# Altium integrated library Linear Technology Power Management Switching Regulator LTC1174-LTC3901.IntLib: 2647 symbols (part 274 of 364)
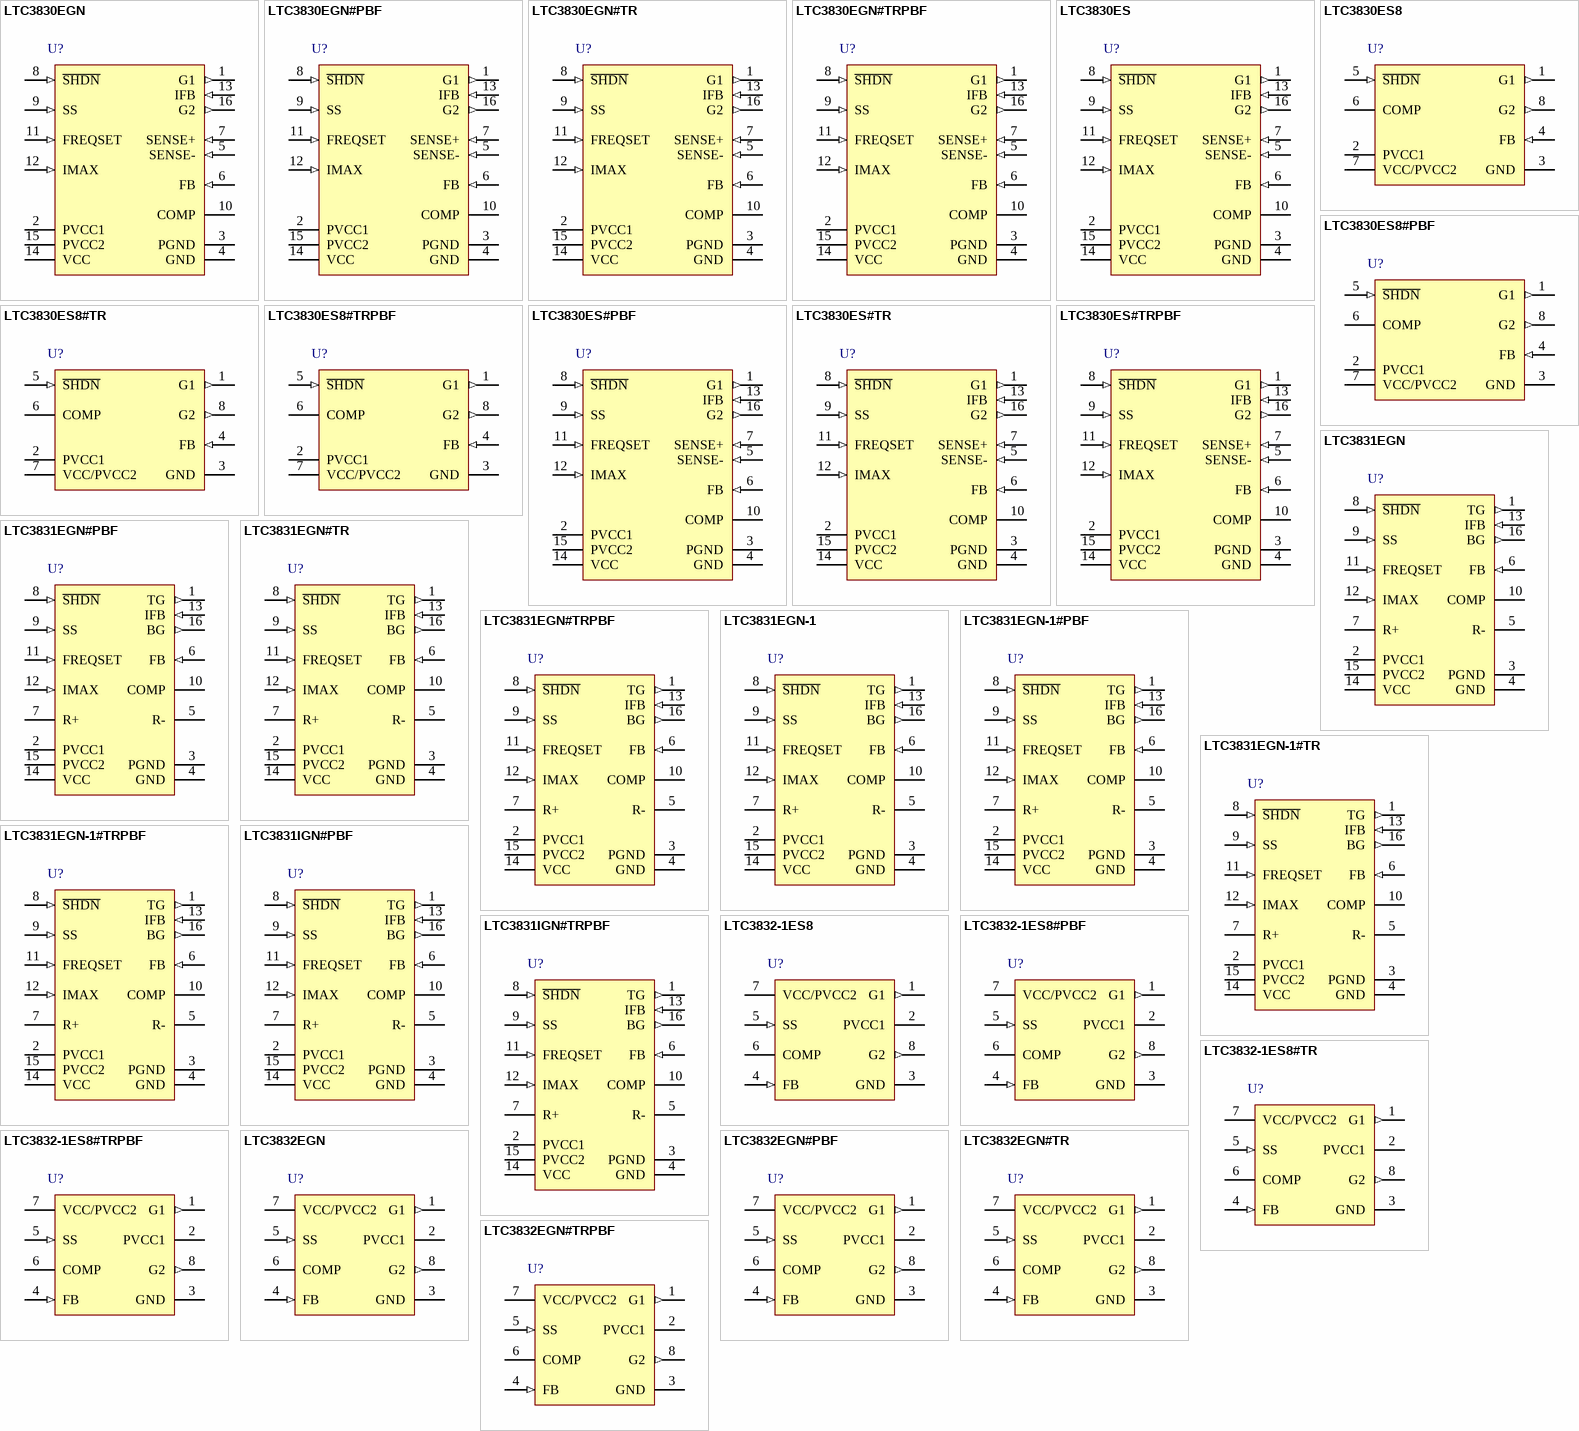
[diagram p357: symbols LTC3830EGN to LTC3832EGN#TRPBF]

## LTC3830ES8#TRPBF
designator U?
High Power Step-Down Synchronous DC/DC Controller for Low Voltage Operation, 8-pin SOIC (S8-8), -40 to 85 degC, Pb-Free, Tape and Reel; Manufacturer: Linear Technology; PartNumber: LTC3830ES8#TRPBF; Frequency Sync Range: 100kHz - 500kHz; Number of Outputs: 1; PackageVersion: Rev. G, 03/2012; PackageReference: S8-8; PackageDescription: 8-Pin Plastic Small Outline (Narrow .150 Inch), Body 4.9 x 3.9 mm, Pitch 1.27 mm; Supplier 1: Digi-Key; Supplier Part Number 1: LTC3830ES8#TRPBF-ND; Packing: Tape and Reel; RoHS: TRUE; Mounting Technology: Surface Mount; ComponentLink1Description: Manufacturer URL; ComponentLink1URL: http://www.linear.com/; ComponentLink2Description: Datasheet; ComponentLink2URL: http://cds.linear.com/docs/en/datasheet/3830fa.pdf; ComponentLink3Description: Package Specification; ComponentLink3URL: http://cds.linear.com/docs/en/packaging/05081610_G_SO8.pdf
footprint LT-S8-8_N (SOIC, 8-Leads, Body 5x4mm, Pitch 1.27mm, IPC Medium Density)
footprint LT-S8-8_L (SOIC, 8-Leads, Body 5x4mm, Pitch 1.27mm, IPC High Density)
footprint LT-S8-8_M (SOIC, 8-Leads, Body 5x4mm, Pitch 1.27mm, IPC Low Density)
pins: 1 G1 (out) "Top Gate Driver Output. Connect this pin to the gate of the upper N-channel MOSFET, Q1. This output swings from PGND to PVCC1. It remains low if G2 is high or during shutdown mode.", 2 PVCC1 (power) "Power Supply Input for G1. Connect this pin to a potential of at least VIN + VGS(ON)(Q1). This potential can be generated using an external supply or charge pump.", 3 GND (power) "Signal Ground. All low power internal circuitry returns to this pin. To minimize regulation errors due to ground currents, connect GND to PGND right at the LTC3830.", 4 FB (in) "These three pins connect to the internal resistor divider and input of the error amplifier. To use the internal divider to set the output voltage to 3.3V, connect SENSE+ to the positive terminal of the output capacitor and (See Datasheet)", 5 ~{SHDN} (in) "Shutdown. A TTL compatible low level at S\H\D\N\ for longer than 100us puts the LTC3830 into shutdown mode. In shutdown, G1 and G2 go low, all internal circuits are disabled and the quiescent current drops to 10uA max. A TTL (See Datasheet)", 6 COMP "External Compensation. This pin internally connects to the output of the error amplifier and input of the PWM comparator. Use a RC + C network at this pin to compensate the feedback loop to provide optimum transient response.", 7 VCC/PVCC2 (power), 8 G2 (out) "Bottom Gate Driver Output. Connect this pin to the gate of the lower N-channel MOSFET, Q2. This output swings from PGND to PVCC2. It remains low when G1 is high or during shutdown mode. To prevent output undershoot during a (See Datasheet)"

## LTC3830ES#PBF
designator U?
High Power Step-Down Synchronous DC/DC Controller for Low Voltage Operation, 16-pin SOP (S-16), -40 to 85 degC, Pb-Free; Manufacturer: Linear Technology; PartNumber: LTC3830ES#PBF; Frequency Sync Range: 100kHz - 500kHz; Number of Outputs: 1; PackageVersion: Rev. G, 05/2012; PackageReference: S-16; PackageDescription: 16-Pin Plastic Small Outline, Body 9.9 x 3.9 mm, Pitch 1.27 mm; Supplier 1: Digi-Key; Supplier Part Number 1: LTC3830ES#PBF-ND; RoHS: TRUE; Mounting Technology: Surface Mount; ComponentLink1Description: Manufacturer URL; ComponentLink1URL: http://www.linear.com/; ComponentLink2Description: Datasheet; ComponentLink2URL: http://cds.linear.com/docs/en/datasheet/3830fa.pdf; ComponentLink3Description: Package Specification; ComponentLink3URL: http://cds.linear.com/docs/en/packaging/S16%2005-08-1610%20Rev%20G.pdf
footprint LT-S-16_N (SOP, 16-Leads, Body 10x4mm, Pitch 1.27mm, IPC Medium Density)
footprint LT-S-16_L (SOP, 16-Leads, Body 10x4mm, Pitch 1.27mm, IPC High Density)
footprint LT-S-16_M (SOP, 16-Leads, Body 10x4mm, Pitch 1.27mm, IPC Low Density)
pins: 1 G1 (out) "Top Gate Driver Output. Connect this pin to the gate of the upper N-channel MOSFET, Q1. This output swings from PGND to PVCC1. It remains low if G2 is high or during shutdown mode.", 2 PVCC1 (power) "Power Supply Input for G1. Connect this pin to a potential of at least VIN + VGS(ON)(Q1). This potential can be generated using an external supply or charge pump.", 3 PGND (power) "Power Ground. Both drivers return to this pin. Connect this pin to a low impedance ground in close proximity to the source of Q2. Refer to the Layout Consideration section for more details on PCB layout techniques. The (See Datasheet)", 4 GND (power) "Signal Ground. All low power internal circuitry returns to this pin. To minimize regulation errors due to ground currents, connect GND to PGND right at the LTC3830.", 5 SENSE- (in) "These three pins connect to the internal resistor divider and input of the error amplifier. To use the internal divider to set the output voltage to 3.3V, connect SENSE+ to the positive terminal of the output capacitor and (See Datasheet)", 6 FB (in) "These three pins connect to the internal resistor divider and input of the error amplifier. To use the internal divider to set the output voltage to 3.3V, connect SENSE+ to the positive terminal of the output capacitor and (See Datasheet)", 7 SENSE+ (in) "These three pins connect to the internal resistor divider and input of the error amplifier. To use the internal divider to set the output voltage to 3.3V, connect SENSE+ to the positive terminal of the output capacitor and (See Datasheet)", 8 ~{SHDN} (in) "Shutdown. A TTL compatible low level at S\H\D\N\ for longer than 100us puts the LTC3830 into shutdown mode. In shutdown, G1 and G2 go low, all internal circuits are disabled and the quiescent current drops to 10uA max. A TTL (See Datasheet)", 9 SS (in) "Soft-Start. Connect this pin to an external capacitor, CSS, to implement a soft-start function. If the LTC3830 goes into current limit, CSS is discharged to reduce the duty cycle. CSS must be selected such that during (See Datasheet)", 10 COMP "External Compensation. This pin internally connects to the output of the error amplifier and input of the PWM comparator. Use a RC + C network at this pin to compensate the feedback loop to provide optimum transient response.", 11 FREQSET (in) "Frequency Set. Use this pin to adjust the free-running frequency of the internal oscillator. With the pin floating, the oscillator runs at about 200kHz. A resistor from FREQSET to ground speeds up the oscillator; a resistor (See Datasheet)", 12 IMAX (in) "Current Limit Threshold Set. IMAX sets the threshold for the internal current limit comparator. If IFB drops below IMAX with G1 on, the LTC3830 goes into current limit. IMAX has an internal 12uA pull-down to GND. Connect (See Datasheet)", 13 IFB (in) "Current Limit Sense. Connect this pin to the switching node at the source of Q1 and the drain of Q2 through a 1k resistor. The 1k resistor is required to prevent voltage transients from damaging IFB.This pin is used for (See Datasheet)", 14 VCC (power) "Power Supply Input. All low power internal circuits draw their supply from this pin. Connect this pin to a clean power supply, separate from the main VIN supply at the drain of Q1. This pin requires a 4.7uF bypass capacitor. (See Datasheet)", 15 PVCC2 (power) "Power Supply Input for G2. Connect this pin to the main high power supply.", 16 G2 (out) "Bottom Gate Driver Output. Connect this pin to the gate of the lower N-channel MOSFET, Q2. This output swings from PGND to PVCC2. It remains low when G1 is high or during shutdown mode. To prevent output undershoot during a (See Datasheet)"